# EAGLE library part FTDIX6 (library dpx-con-CUSTOM)
PIN HEADER
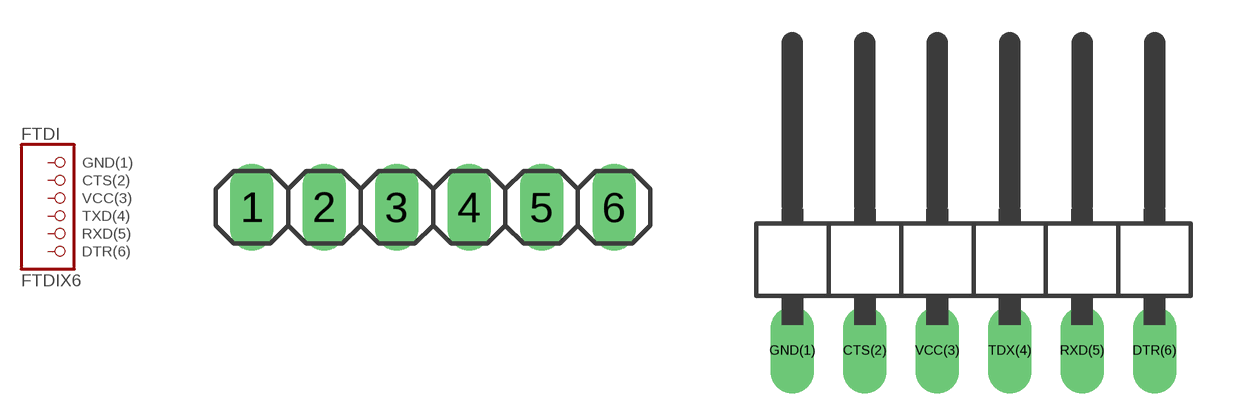
[diagram p26: symbol with the pads of FTDI_6; footprints FTDI_6, FTDI_6R]

Designator prefix FTDI

## FTDIX6  [FTDI_6]
1  GND(1)  pas
2  CTS(2)  pas
3  VCC(3)  pas
4  TXD(4)  pas
5  RXD(5)  pas
6  DTR(6)  pas

## FTDIX6/90  [FTDI_6R]
CTS(2)  CTS(2)  pas
DTR(6)  DTR(6)  pas
GND(1)  GND(1)  pas
RXD(5)  RXD(5)  pas
TDX(4)  TXD(4)  pas
VCC(3)  VCC(3)  pas

## Footprint FTDI_6 (pad centres in mm)
PIN HEADER
drill 1.016 long: 1 -6.35,0; 2 -3.81,0; 3 -1.27,0; 4 1.27,0; 5 3.81,0; 6 6.35,0

## Footprint FTDI_6R (pad centres in mm)
PIN HEADER
drill 1.016 long: CTS(2) -3.81,-3.81; DTR(6) 6.35,-3.81; GND(1) -6.35,-3.81; RXD(5) 3.81,-3.81; TDX(4) 1.27,-3.81; VCC(3) -1.27,-3.81